# Altium footprint library Inductors_Power.PCBLIB: 45 footprints (part 2 of 3)
Each footprint in its own frame and in the unit in brackets; x right, y up, seen from the top. Pads: shape width x height; smd on the part's side, far side on the other; paste and mask are expansions set on the pad; w line width, h text height; cw(c..) or ccw(c..) is an arc to the next point about the centre after c.
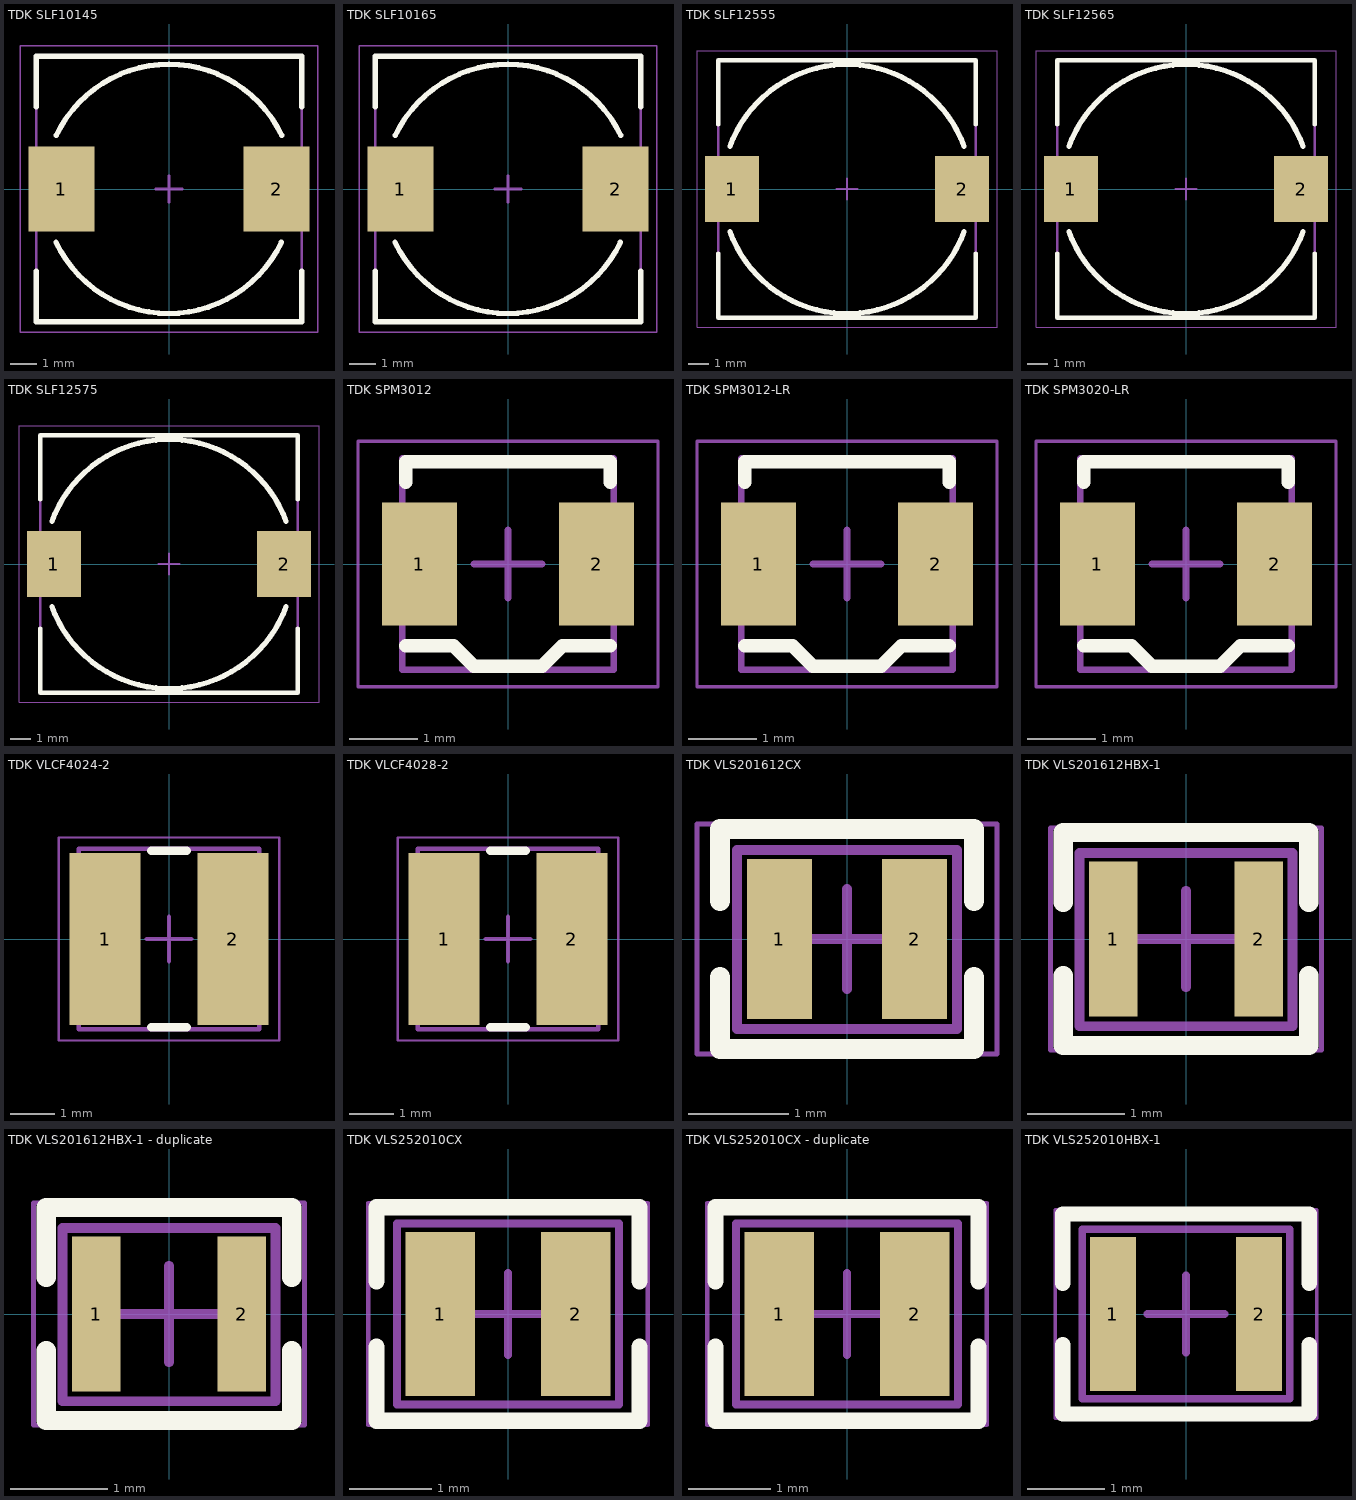
[diagram p1: the footprints below, top view; thin cyan lines are the x and y axes]

## TDK SLF10145 [mm] "Precision Wire Wound Inductor, 2-Leads, Body 10.10x10.10mm, IPC Medium Density"
height 4.53
pads (2):
  rect 2.5x3.2 smd: 1(-4.05,0) 2(4.05,0)
Top Overlay:
  lines w0.2: -5,-3.1 -5,-5 5,-5 5,-3.1 ; -5,3.1 -5,5 5,5 5,3.1 ; -4.253,-2.01 ccw(c-0.01,0.01) 4.234,-2.01 ; -4.243,2.021 cw(c0,0) 4.243,2.021
Mechanical 13:
  lines w0.1: -5,-5 5,-5 5,5 -5,5 -5,-5
Mechanical 15 (Mech15):
  lines w0.05: -5.6,-5.4 5.6,-5.4 5.6,5.4 -5.6,5.4 -5.6,-5.4
  lines w0.1: -0.5,0 0.5,0 ; 0,-0.5 0,0.5
3D body "TDK - SLF10145.step": height 4.53, standoff 0, extent -5.05,-5.05 5.05,5.05

## TDK SLF10165 [mm] "Precision Wire Wound Inductor, 2-Leads, Body 10.10x10.10mm, IPC Medium Density"
height 6.53
pads (2):
  rect 2.5x3.2 smd: 1(-4.05,0) 2(4.05,0)
Top Overlay:
  lines w0.2: -5,-3.1 -5,-5 5,-5 5,-3.1 ; -5,3.1 -5,5 5,5 5,3.1 ; -4.253,-2.01 ccw(c-0.01,0.01) 4.234,-2.01 ; -4.243,2.021 cw(c0,0) 4.243,2.021
Mechanical 13:
  lines w0.1: -5,-5 -5,5 5,5 5,-5 -5,-5
Mechanical 15 (Mech15):
  lines w0.05: -5.6,-5.4 -5.6,5.4 5.6,5.4 5.6,-5.4 -5.6,-5.4
  lines w0.1: -0.5,0 0.5,0 ; 0,-0.5 0,0.5
3D body "TDK - SLF10165.step": height 6.53, standoff 0, extent -5.05,-5.05 5.05,5.05

## TDK SLF12555 [mm] "Precision Wire Wound Inductor, 2-Leads, Body 12.50x12.50mm, IPC Medium Density"
height 5.5
pads (2):
  rect 2.6x3.2 smd: 1(-5.55,0) 2(5.55,0)
Top Overlay:
  lines w0.2: -6.2,-3.1 -6.2,-6.2 6.2,-6.2 6.2,-3.1 ; -6.2,3.1 -6.2,6.2 6.2,6.2 6.2,3.1
  lines w0.254: -5.639,-2.05 ccw(c0,0) 5.639,-2.05 ; -5.639,2.05 cw(c0,0) 5.639,2.05
Mechanical 13:
  lines w0.1: -6.2,-6.2 6.2,-6.2 6.2,6.2 -6.2,6.2 -6.2,-6.2
Mechanical 15 (Mech15):
  lines w0.05: -7.225,-6.65 7.225,-6.65 7.225,6.65 -7.225,6.65 -7.225,-6.65
  lines w0.1: -0.5,0 0.5,0 ; 0,-0.5 0,0.5
3D body "TDK - SLF12555.step": height 5.53, standoff 0, extent -6.335,-6.325 6.335,6.325

## TDK SLF12565 [mm] "Precision Wire Wound Inductor, 2-Leads, Body 12.50x12.50mm, IPC Medium Density"
height 6.5
pads (2):
  rect 2.6x3.2 smd: 1(-5.55,0) 2(5.55,0)
Top Overlay:
  lines w0.2: -6.2,-3.1 -6.2,-6.2 6.2,-6.2 6.2,-3.1 ; -6.2,3.1 -6.2,6.2 6.2,6.2 6.2,3.1
  lines w0.254: -5.639,-2.05 ccw(c0,0) 5.639,-2.05 ; -5.639,2.05 cw(c0,0) 5.639,2.05
Mechanical 13:
  lines w0.1: -6.2,-6.2 6.2,-6.2 6.2,6.2 -6.2,6.2 -6.2,-6.2
Mechanical 15 (Mech15):
  lines w0.05: -7.225,-6.65 7.225,-6.65 7.225,6.65 -7.225,6.65 -7.225,-6.65
  lines w0.1: -0.5,0 0.5,0 ; 0,-0.5 0,0.5
3D body "TDK - SLF12565.step": height 6.85, standoff 0, extent -6.335,-6.325 6.335,6.325

## TDK SLF12575 [mm] "Precision Wire Wound Inductor, 2-Leads, Body 12.50x12.50mm, IPC Medium Density"
height 7.5
pads (2):
  rect 2.6x3.2 smd: 1(-5.55,0) 2(5.55,0)
Top Overlay:
  lines w0.2: -6.2,-3.1 -6.2,-6.2 6.2,-6.2 6.2,-3.1 ; -6.2,3.1 -6.2,6.2 6.2,6.2 6.2,3.1
  lines w0.254: -5.639,-2.05 ccw(c0,0) 5.639,-2.05 ; -5.639,2.05 cw(c0,0) 5.639,2.05
Mechanical 13:
  lines w0.1: -6.2,-6.2 -6.2,6.2 6.2,6.2 6.2,-6.2 -6.2,-6.2
Mechanical 15 (Mech15):
  lines w0.05: -7.225,-6.65 -7.225,6.65 7.225,6.65 7.225,-6.65 -7.225,-6.65
  lines w0.1: -0.5,0 0.5,0 ; 0,-0.5 0,0.5
3D body "TDK - SLF12575.step": height 7.85, standoff 0, extent -6.335,-6.325 6.335,6.325

## TDK SPM3012 [mm] "Inductor, 2-Leads, Body 3.00x3.00mm, IPC Medium Density"
height 1.2
pads (2):
  rect 1.1x1.8 smd: 1(-1.3,0) 2(1.3,0)
Top Overlay:
  lines w0.2: -1.5,-1.2 -0.8,-1.2 -0.5,-1.5 0,-1.5 0.5,-1.5 0.8,-1.2 1.5,-1.2 ; -1.5,1.2 -1.5,1.5 1.5,1.5 1.5,1.2
Mechanical 13:
  lines w0.1: -1.55,-1.55 -1.55,1.55 1.55,1.55 1.55,-1.55 -1.55,-1.55
Mechanical 15 (Mech15):
  lines w0.05: -2.2,-1.8 -2.2,1.8 2.2,1.8 2.2,-1.8 -2.2,-1.8
  lines w0.1: -0.5,0 0.5,0 ; 0,-0.5 0,0.5
3D body "SPM3012.STEP": height 1.2, standoff 0, extent -1.6,-1.5 1.6,1.5

## TDK SPM3012-LR [mm] "Inductor, 2-Leads, Body 3.00x3.00mm, IPC Medium Density"
height 1.2
pads (2):
  rect 1.1x1.8 smd: 1(-1.3,0) 2(1.3,0)
Top Overlay:
  lines w0.2: -1.5,-1.2 -0.8,-1.2 -0.5,-1.5 0,-1.5 0.5,-1.5 0.8,-1.2 1.5,-1.2 ; -1.5,1.2 -1.5,1.5 1.5,1.5 1.5,1.2
Mechanical 13:
  lines w0.1: -1.55,-1.55 1.55,-1.55 1.55,1.55 -1.55,1.55 -1.55,-1.55
Mechanical 15 (Mech15):
  lines w0.05: -2.2,-1.8 2.2,-1.8 2.2,1.8 -2.2,1.8 -2.2,-1.8
  lines w0.1: -0.5,0 0.5,0 ; 0,-0.5 0,0.5
3D body "SPM3012.STEP": height 1.2, standoff 0, extent -1.6,-1.5 1.6,1.5

## TDK SPM3020-LR [mm] "Inductor, 2-Leads, Body 3.00x3.00mm, IPC Medium Density"
height 2
pads (2):
  rect 1.1x1.8 smd: 1(-1.3,0) 2(1.3,0)
Top Overlay:
  lines w0.2: -1.5,-1.2 -0.8,-1.2 -0.5,-1.5 0,-1.5 0.5,-1.5 0.8,-1.2 1.5,-1.2 ; -1.5,1.2 -1.5,1.5 1.5,1.5 1.5,1.2
Mechanical 13:
  lines w0.1: -1.55,-1.55 -1.55,1.55 1.55,1.55 1.55,-1.55 -1.55,-1.55
Mechanical 15 (Mech15):
  lines w0.05: -2.2,-1.8 -2.2,1.8 2.2,1.8 2.2,-1.8 -2.2,-1.8
  lines w0.1: -0.5,0 0.5,0 ; 0,-0.5 0,0.5
3D body "SPM3020.STEP": height 2, standoff 0, extent -1.6,-1.5 1.6,1.5

## TDK VLCF4024-2 [mm] "Precision Wire Wound Inductor, 2-Leads, Body 4.00x4.00mm, IPC Medium Density"
height 2.4
pads (2):
  rect 1.6x3.9 smd: 1(-1.45,0) 2(1.45,0)
Top Overlay:
  lines w0.2: -0.4,-2 0.4,-2 ; -0.4,2 0.4,2
Mechanical 13:
  lines w0.1: -2.05,-2.05 2.05,-2.05 2.05,2.05 -2.05,2.05 -2.05,-2.05
Mechanical 15 (Mech15):
  lines w0.05: -2.5,-2.3 2.5,-2.3 2.5,2.3 -2.5,2.3 -2.5,-2.3
  lines w0.1: -0.5,0 0.5,0 ; 0,-0.5 0,0.5
3D body "TDK VLCF4024.STEP": height 2.4, standoff 0, extent -2.05,-2 2.05,2

## TDK VLCF4028-2 [mm] "Precision Wire Wound Inductor, 2-Leads, Body 4.00x4.00mm, IPC Medium Density"
height 2.8
pads (2):
  rect 1.6x3.9 smd: 1(-1.45,0) 2(1.45,0)
Top Overlay:
  lines w0.2: -0.4,-2 0.4,-2 ; -0.4,2 0.4,2
Mechanical 13:
  lines w0.1: -2.05,-2.05 -2.05,2.05 2.05,2.05 2.05,-2.05 -2.05,-2.05
Mechanical 15 (Mech15):
  lines w0.05: -2.5,-2.3 -2.5,2.3 2.5,2.3 2.5,-2.3 -2.5,-2.3
  lines w0.1: -0.5,0 0.5,0 ; 0,-0.5 0,0.5
3D body "TDK VLCF4028.STEP": height 2.81, standoff 0, extent -2.05,-2 2.05,2

## TDK VLS201612CX [mm] "Inductor, 2-Leads, Body 2.00x1.60mm, IPC Medium Density"
height 1.2
pads (2):
  rect 0.65x1.6 smd: 1(-0.675,0) 2(0.675,0)
Top Overlay:
  lines w0.2: -1.27,-0.381 -1.27,-1.1 1.27,-1.1 1.27,-0.381 ; -1.27,0.381 -1.27,1.1 1.27,1.1 1.27,0.381
Mechanical 13:
  lines w0.1: -1.1,-0.9 -1.1,0.889 1.1,0.889 1.1,-0.9 -1.1,-0.9
Mechanical 15 (Mech15):
  lines w0.05: -1.5,-1.15 -1.5,1.15 1.5,1.15 1.5,-1.15 -1.5,-1.15
  lines w0.1: -0.5,0 0.5,0 ; 0,-0.5 0,0.5
3D body "VLS201612CX.STEP": height 1.2, standoff 0, extent -1,-0.8 1,0.8

## TDK VLS201612HBX-1 [mm] "Inductor, 2-Leads, Body 2.00x1.60mm, IPC Medium Density"
height 1.2
pads (2):
  rect 0.5x1.6 smd: 1(-0.75,0) 2(0.75,0)
Top Overlay:
  lines w0.2: -1.27,-0.381 -1.27,-1.1 1.27,-1.1 1.27,-0.381 ; -1.27,0.381 -1.27,1.1 1.27,1.1 1.27,0.381
Mechanical 13:
  lines w0.1: -1.1,-0.9 1.1,-0.9 1.1,0.889 -1.1,0.889 -1.1,-0.9
Mechanical 15 (Mech15):
  lines w0.05: -1.4,-1.15 1.4,-1.15 1.4,1.15 -1.4,1.15 -1.4,-1.15
  lines w0.1: -0.5,0 0.5,0 ; 0,-0.5 0,0.5
3D body "VLS201612.STEP": height 1.2, standoff 0, extent -1,-0.8 1,0.8

## TDK VLS201612HBX-1 - duplicate [mm] "Inductor, 2-Leads, Body 2.00x1.60mm, IPC Medium Density"
height 1.2
pads (2):
  rect 0.5x1.6 smd: 1(-0.75,0) 2(0.75,0)
Top Overlay:
  lines w0.2: -1.27,-0.381 -1.27,-1.1 1.27,-1.1 1.27,-0.381 ; -1.27,0.381 -1.27,1.1 1.27,1.1 1.27,0.381
Mechanical 13:
  lines w0.1: -1.1,-0.9 1.1,-0.9 1.1,0.889 -1.1,0.889 -1.1,-0.9
Mechanical 15 (Mech15):
  lines w0.05: -1.4,-1.15 1.4,-1.15 1.4,1.15 -1.4,1.15 -1.4,-1.15
  lines w0.1: -0.5,0 0.5,0 ; 0,-0.5 0,0.5
3D body "VLS201612.STEP": height 1.2, standoff 0, extent -1,-0.8 1,0.8

## TDK VLS252010CX [mm] "Chip Inductor, 2-Leads, Body 2.50x2.00mm, IPC Medium Density"
height 1
pads (2):
  rect 0.85x2 smd: 1(-0.825,0) 2(0.825,0)
Top Overlay:
  lines w0.2: -1.6,-0.4 -1.6,-1.3 1.6,-1.3 1.6,-0.4 ; -1.6,0.4 -1.6,1.3 1.6,1.3 1.6,0.4
Mechanical 13:
  lines w0.1: -1.35,-1.1 1.35,-1.1 1.35,1.1 -1.35,1.1 -1.35,-1.1
Mechanical 15 (Mech15):
  lines w0.05: -1.7,-1.35 1.7,-1.35 1.7,1.35 -1.7,1.35 -1.7,-1.35
  lines w0.1: -0.5,0 0.5,0 ; 0,-0.5 0,0.5
3D body "VLS252010CX.STEP": height 1, standoff 0, extent -1.25,-1 1.25,1

## TDK VLS252010CX - duplicate [mm] "Chip Inductor, 2-Leads, Body 2.50x2.00mm, IPC Medium Density"
height 1
pads (2):
  rect 0.85x2 smd: 1(-0.825,0) 2(0.825,0)
Top Overlay:
  lines w0.2: -1.6,-0.4 -1.6,-1.3 1.6,-1.3 1.6,-0.4 ; -1.6,0.4 -1.6,1.3 1.6,1.3 1.6,0.4
Mechanical 13:
  lines w0.1: -1.35,-1.1 -1.35,1.1 1.35,1.1 1.35,-1.1 -1.35,-1.1
Mechanical 15 (Mech15):
  lines w0.05: -1.7,-1.35 -1.7,1.35 1.7,1.35 1.7,-1.35 -1.7,-1.35
  lines w0.1: -0.5,0 0.5,0 ; 0,-0.5 0,0.5
3D body "VLS252010CX.STEP": height 1, standoff 0, extent -1.25,-1 1.25,1

## TDK VLS252010HBX-1 [mm] "Inductor, 2-Leads, Body 2.50x2.00mm, IPC Medium Density"
height 1
pads (2):
  rect 0.6x2 smd: 1(-0.95,0) 2(0.95,0)
Top Overlay:
  lines w0.2: -1.6,-0.4 -1.6,-1.3 1.6,-1.3 1.6,-0.4 ; -1.6,0.4 -1.6,1.3 1.6,1.3 1.6,0.4
Mechanical 13:
  lines w0.1: -1.35,-1.1 1.35,-1.1 1.35,1.1 -1.35,1.1 -1.35,-1.1
Mechanical 15 (Mech15):
  lines w0.05: -1.7,-1.35 1.7,-1.35 1.7,1.35 -1.7,1.35 -1.7,-1.35
  lines w0.1: -0.5,0 0.5,0 ; 0,-0.5 0,0.5
3D body "VLS252010HBX-1.STEP": height 1.2, standoff 0, extent -1.25,-1 1.25,1